# EAGLE library part DRV8833 (library pimoroni)
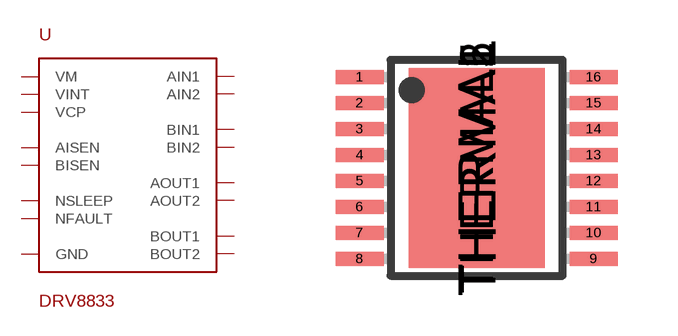
[diagram p26: symbol with the pads of HTSSOP16; footprint HTSSOP16]

Designator prefix -

## DRV8833PWP  [HTSSOP16]
1  NSLEEP
2  AOUT1
3  AISEN
4  AOUT2
5  BOUT2
6  BISEN
7  BOUT1
8  NFAULT
9  BIN1
10  BIN2
11  VCP
12  VM
13  GND
14  VINT
15  AIN2
16  AIN1
THERMAL  GND

## Footprint HTSSOP16 (pad centres in mm)
smd 1.2 x 0.35: 1 -2.925,2.275; 2 -2.925,1.625; 3 -2.925,0.975; 4 -2.925,0.325; 5 -2.925,-0.325; 6 -2.925,-0.975; 7 -2.925,-1.625; 8 -2.925,-2.275; 9 2.925,-2.275; 10 2.925,-1.625; 11 2.925,-0.975; 12 2.925,-0.325; 13 2.925,0.325; 14 2.925,0.975; 15 2.925,1.625; 16 2.925,2.275
smd 3.4 x 5: THERMAL 0,0; THERMAL1 0,0; THERMAL2 0,0; THERMAL5 0,0